# EAGLE library part NCP5106 (library on-semi)
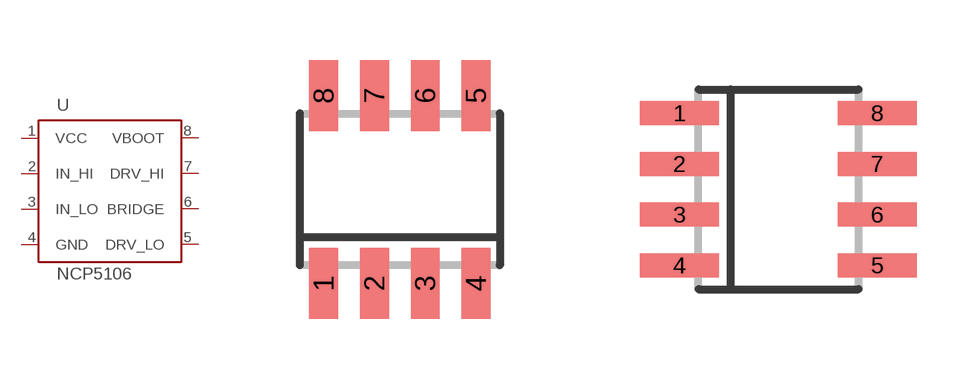
[diagram p1: symbol with the pads of SO08; footprints SO08, SOIC127P600X175-8]

Designator prefix -

## NCP5106  [SO08]
1  VCC  pwr
2  IN_HI  in
3  IN_LO  in
4  GND  pwr
5  DRV_LO  out
6  BRIDGE  pwr
7  DRV_HI  out
8  VBOOT  pwr

## NCP5106D  [SOIC127P600X175-8]
Pads as for SO08

## NCP5106MN  [SON80P400X400X100-11T275X300]
1  VCC  pwr
2  IN_HI  in
3  IN_LO  in
4  GND  pwr
5  DRV_LO  out
6  BRIDGE  pwr
8  DRV_HI  out
10  VBOOT  pwr

## Footprint SO08 (pad centres in mm)
8 Lead SOIC Data Sheet No. PD60212 Rev A Source: www.irf.com .. ir2520.pdf
smd 0.72 x 1.78: 1 -1.905,-2.35; 2 -0.635,-2.35; 3 0.635,-2.35; 4 1.905,-2.35; 5 1.905,2.35; 6 0.635,2.35; 7 -0.635,2.35; 8 -1.905,2.35

## Footprint SOIC127P600X175-8 (pad centres in mm)
8-SOIC, 1.27 mm pitch, 6.00 mm span, 4.90 X 3.90 X 1.75 mm body 8-pin SOIC package with 1.27 mm pitch, 6.00 mm span with body size 4.90 X 3.90 X 1.75 mm
smd 1.968 x 0.602: 1 -2.473,1.905; 2 -2.473,0.635; 3 -2.473,-0.635; 4 -2.473,-1.905; 5 2.473,-1.905; 6 2.473,-0.635; 7 2.473,0.635; 8 2.473,1.905

## Footprint SON80P400X400X100-11T275X300 (pad centres in mm)
10-SON, 0.80 mm pitch, 4.00 X 4.00 X 1.00 mm body, 3.00 X 2.75 mm thermal pad 10-pin SON package with 0.80 mm pitch with body size 4.00 X 4.00 X 1.00 mm and thermal pad size 3.00 X 2.75 mm
smd 0.8 x 0.42: 1 -1.96,1.6; 2 -1.96,0.8; 3 -1.96,0; 4 -1.96,-0.8; 5 -1.96,-1.6; 6 1.96,-1.6; 7 1.96,-0.8; 8 1.96,0; 9 1.96,0.8
smd 0.811 x 0.42: 10 1.96,1.6
smd 2.15 x 3.2: 11 -0.325,0